# Altium schematic symbol library BSPD_V1.1.SchLib: 2 symbols
Pins are listed as number, name and electrical type; pins without a type are passive.

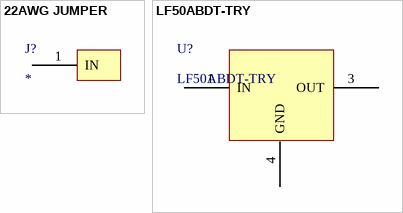
[diagram p0: symbols 22AWG JUMPER to LF50ABDT-TRY]

## 22AWG JUMPER
designator J?
footprint 22 AWG Hole (Solder 22awg or whatever wire fits into this)
pins: 1 IN

## LF50ABDT-TRY
designator U?
/ Linear Voltage Regulator IC Positive Fixed 1 Output 500mA DPAK
footprint DPAK228P972X238-3N (D-PAK, 3-Pads, Body 6.40x6.56mm (max), IPC Medium Density)
pins: 1 IN (power) "Input(16V MAX)", 3 OUT (power) "Output(5V)", 4 GND (power)